# Altium schematic symbol library eUSR_SchLibrary - PowerSupply.SchLib: 32 symbols
Pins are listed as number, name and electrical type; pins without a type are passive.

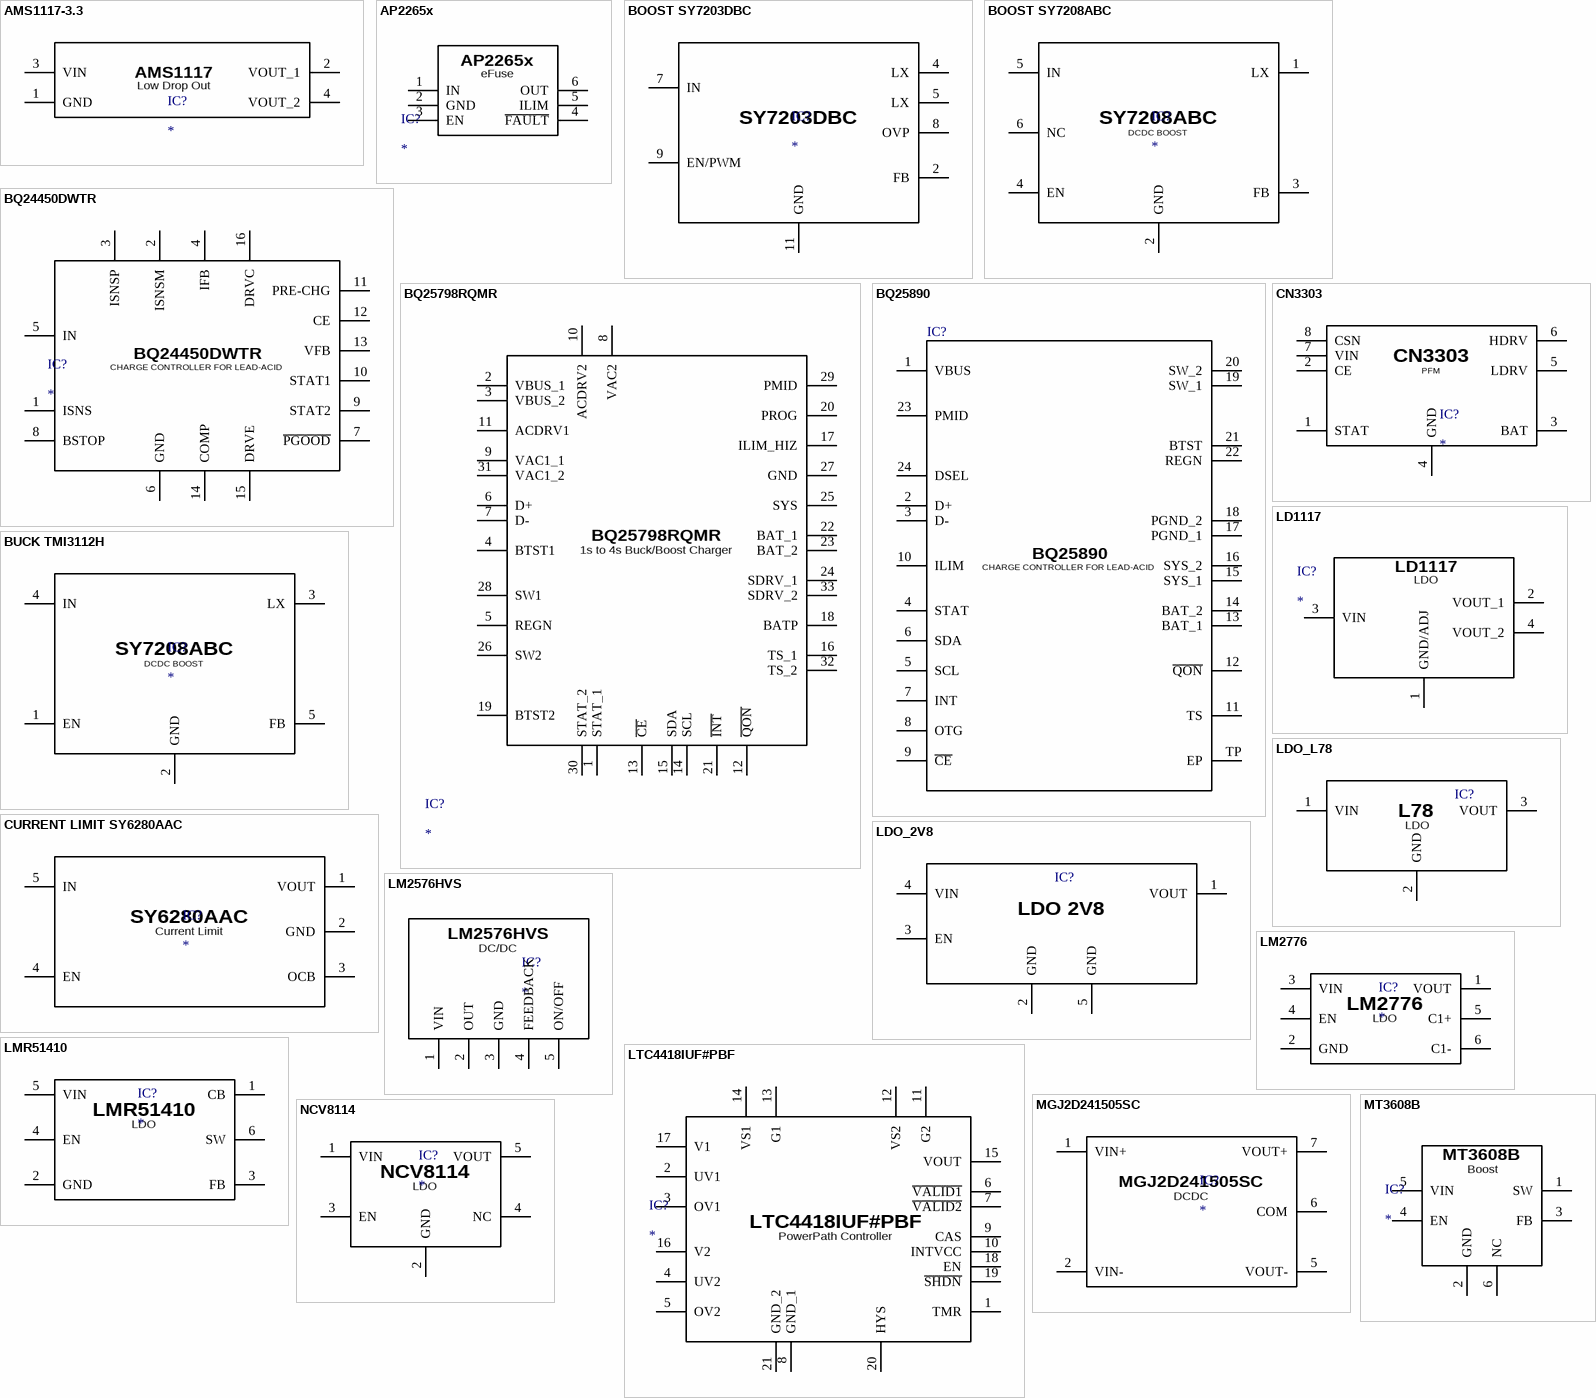
[diagram p0: symbols AMS1117-3.3 to NCV8114]

## AMS1117-3.3
designator IC?
ComponentLink1Description: Datasheet; ComponentLink1URL: *; ComponentLink2Description: Distributor Link; ComponentLink2URL: *
pins: 1 GND, 2 VOUT_1, 3 VIN, 4 VOUT_2
text: AMS1117; Low Drop Out

## AP2265x
designator IC?
ComponentLink1Description: Datasheet; ComponentLink1URL: *; ComponentLink2Description: Distributor Link; ComponentLink2URL: *
pins: 1 IN, 2 GND, 3 EN, 4 ~{FAULT}, 5 ILIM, 6 OUT
text: eFuse

## BOOST SY7203DBC
designator IC?
ComponentLink1Description: Datasheet; ComponentLink1URL: *; ComponentLink2Description: Distributor Link; ComponentLink2URL: *
pins: 2 FB (power), 4 LX (power), 5 LX (power), 7 IN (power), 8 OVP (power), 9 EN/PWM (power), 11 GND (power)
text: SY7203DBC

## BOOST SY7208ABC
designator IC?
ComponentLink1Description: Datasheet; ComponentLink1URL: *; ComponentLink2Description: Distributor Link; ComponentLink2URL: *
pins: 1 LX (power), 2 GND (power), 3 FB (power), 4 EN (power), 5 IN (power), 6 NC (power)
text: SY7208ABC; DCDC BOOST

## BQ24450DWTR
designator IC?
ComponentLink1Description: Datasheet; ComponentLink1URL: *; ComponentLink2Description: Distributor Link; ComponentLink2URL: *
pins: 1 ISNS, 2 ISNSM, 3 ISNSP, 4 IFB, 5 IN, 6 GND, 7 ~{PGOOD}, 8 BSTOP, 9 STAT2, 10 STAT1, 11 PRE-CHG, 12 CE, 13 VFB, 14 COMP, 15 DRVE, 16 DRVC
text: CHARGE CONTROLLER FOR LEAD-ACID

## BQ25798RQMR
designator IC?
ComponentLink1Description: Datasheet; ComponentLink1URL: *; ComponentLink2Description: Distributor Link; ComponentLink2URL: *
pins: 1 STAT_1, 2 VBUS_1, 3 VBUS_2, 4 BTST1, 5 REGN, 6 D+, 7 D-, 8 VAC2, 9 VAC1_1, 10 ACDRV2, 11 ACDRV1, 12 ~{QON}, 13 ~{CE}, 14 SCL, 15 SDA, 16 TS_1, 17 ILIM_HIZ, 18 BATP, 19 BTST2, 20 PROG, 21 ~{INT}, 22 BAT_1, 23 BAT_2, 24 SDRV_1, 25 SYS, 26 SW2, 27 GND, 28 SW1, 29 PMID, 30 STAT_2, 31 VAC1_2, 32 TS_2, 33 SDRV_2
text: 1s to 4s Buck/Boost Charger

## BQ25890
designator IC?
ComponentLink1Description: Datasheet; ComponentLink1URL: *; ComponentLink2Description: Distributor Link; ComponentLink2URL: *
pins: 1 VBUS, 2 D+, 3 D-, 4 STAT, 5 SCL, 6 SDA, 7 INT, 8 OTG, 9 ~{CE}, 10 ILIM, 11 TS, 12 ~{QON}, 13 BAT_1, 14 BAT_2, 15 SYS_1, 16 SYS_2, 17 PGND_1, 18 PGND_2, 19 SW_1, 20 SW_2, 21 BTST, 22 REGN, 23 PMID, 24 DSEL, TP EP
text: CHARGE CONTROLLER FOR LEAD-ACID

## BUCK TMI3112H
designator IC?
ComponentLink1Description: Datasheet; ComponentLink1URL: *; ComponentLink2Description: Distributor Link; ComponentLink2URL: *
pins: 1 EN (power), 2 GND (power), 3 LX (power), 4 IN (power), 5 FB (power)
text: SY7208ABC; DCDC BOOST

## CN3303
designator IC?
ComponentLink1Description: Datasheet; ComponentLink1URL: *; ComponentLink2Description: Distributor Link; ComponentLink2URL: *
pins: 1 STAT (power), 2 CE (power), 3 BAT (power), 4 GND (power), 5 LDRV (power), 6 HDRV (power), 7 VIN (power), 8 CSN (power)
text: PFM

## CURRENT LIMIT SY6280AAC
designator IC?
ComponentLink1Description: Datasheet; ComponentLink1URL: *; ComponentLink2Description: Distributor Link; ComponentLink2URL: *
pins: 1 VOUT (power), 2 GND (power), 3 OCB (power), 4 EN (power), 5 IN (power)
text: SY6280AAC; Current Limit

## LD1117
designator IC?
ComponentLink1Description: Datasheet; ComponentLink1URL: *; ComponentLink2Description: Distributor Link; ComponentLink2URL: *
pins: 1 GND/ADJ, 2 VOUT_1, 3 VIN, 4 VOUT_2
text: LDO

## LDO_2V8
designator IC?  (value not drawn)
ComponentLink1Description: Datasheet; ComponentLink1URL: *; ComponentLink2Description: Distributor Link; ComponentLink2URL: *
pins: 1 VOUT (power), 2 GND (power), 3 EN, 4 VIN (power), 5 GND (power)
text: LDO 2V8

## LDO_L78
designator IC?  (value not drawn)
ComponentLink1Description: Datasheet; ComponentLink1URL: *; ComponentLink2Description: Distributor Link; ComponentLink2URL: *
pins: 1 VIN (power), 2 GND (power), 3 VOUT (power)
text: L78; LDO

## LM2576HVS
designator IC?
ComponentLink1Description: Datasheet; ComponentLink1URL: *; ComponentLink2Description: Distributor Link; ComponentLink2URL: *
pins: 1 VIN, 2 OUT, 3 GND, 4 FEEDBACK, 5 ON/OFF
text: DC/DC

## LM2776
designator IC?
ComponentLink1Description: Datasheet; ComponentLink1URL: *; ComponentLink2Description: Distributor Link; ComponentLink2URL: *
pins: 1 VOUT, 2 GND, 3 VIN, 4 EN, 5 C1+, 6 C1-
text: LDO

## LMR51410
designator IC?
ComponentLink1Description: Datasheet; ComponentLink1URL: *; ComponentLink2Description: Distributor Link; ComponentLink2URL: *
pins: 1 CB, 2 GND, 3 FB, 4 EN, 5 VIN, 6 SW
text: LDO

## LTC4418IUF#PBF
designator IC?
ComponentLink1Description: Datasheet; ComponentLink1URL: *; ComponentLink2Description: Distributor Link; ComponentLink2URL: *
pins: 1 TMR, 2 UV1, 3 OV1, 4 UV2, 5 OV2, 6 ~{VALID1}, 7 ~{VALID2}, 8 GND_1, 9 CAS, 10 INTVCC, 11 G2, 12 VS2, 13 G1, 14 VS1, 15 VOUT, 16 V2, 17 V1, 18 EN, 19 ~{SHDN}, 20 HYS, 21 GND_2
text: PowerPath Controller

## MGJ2D241505SC
designator IC?
ComponentLink1Description: Datasheet; ComponentLink1URL: *; ComponentLink2Description: Distributor Link; ComponentLink2URL: *
pins: 1 VIN+, 2 VIN-, 5 VOUT-, 6 COM, 7 VOUT+
text: DCDC

## MT3608B
designator IC?
ComponentLink1Description: Datasheet; ComponentLink1URL: *; ComponentLink2Description: Distributor Link; ComponentLink2URL: *
pins: 1 SW, 2 GND, 3 FB, 4 EN, 5 VIN, 6 NC
text: Boost

## NCV8114
designator IC?
ComponentLink1Description: Datasheet; ComponentLink1URL: *; ComponentLink2Description: Distributor Link; ComponentLink2URL: *
pins: 1 VIN, 2 GND, 3 EN, 4 NC, 5 VOUT
text: LDO

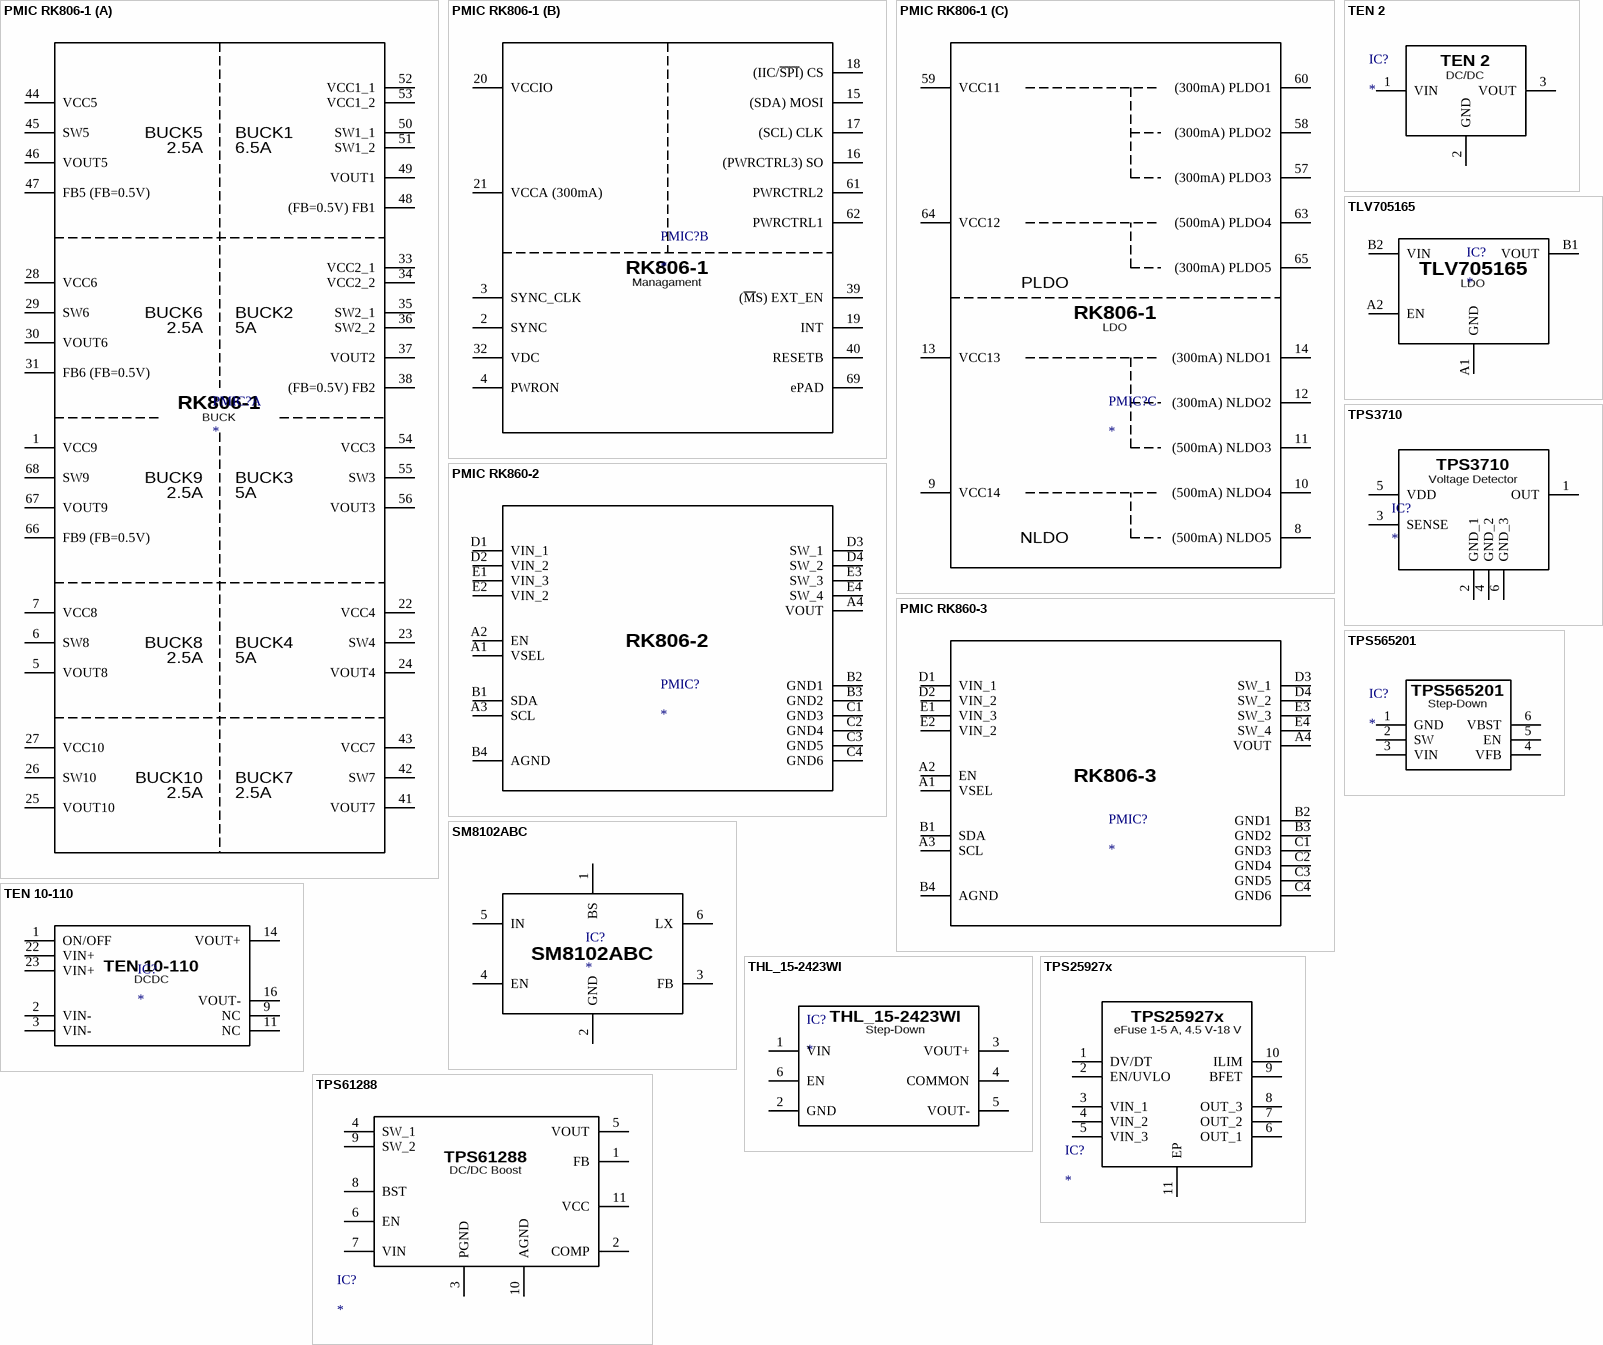
[diagram p1: symbols PMIC RK806-1 to TPS565201]

## PMIC RK806-1
designator PMIC?
ComponentLink1Description: Datasheet; ComponentLink1URL: *; ComponentLink2Description: Distributor Link; ComponentLink2URL: *
part A pins: 1 VCC9, 5 VOUT8, 6 SW8, 7 VCC8, 22 VCC4, 23 SW4, 24 VOUT4, 25 VOUT10, 26 SW10, 27 VCC10, 28 VCC6, 29 SW6, 30 VOUT6, 31 FB6 (FB=0.5V), 33 VCC2_1, 34 VCC2_2, 35 SW2_1, 36 SW2_2, 37 VOUT2, 38 (FB=0.5V) FB2, 41 VOUT7, 42 SW7, 43 VCC7, 44 VCC5, 45 SW5, 46 VOUT5, 47 FB5 (FB=0.5V), 48 (FB=0.5V) FB1, 49 VOUT1, 50 SW1_1, 51 SW1_2, 52 VCC1_1, 53 VCC1_2, 54 VCC3, 55 SW3, 56 VOUT3, 66 FB9 (FB=0.5V), 67 VOUT9, 68 SW9
part B pins: 2 SYNC, 3 SYNC_CLK, 4 PWRON, 15 (SDA) MOSI, 16 (PWRCTRL3) SO, 17 (SCL) CLK, 18 (IIC/~{SPI}) CS, 19 INT, 20 VCCIO, 21 VCCA (300mA), 32 VDC, 39 (~{M}S) EXT_EN, 40 RESETB, 61 PWRCTRL2, 62 PWRCTRL1, 69 ePAD
part C pins: 8 (500mA) NLDO5, 9 VCC14, 10 (500mA) NLDO4, 11 (500mA) NLDO3, 12 (300mA) NLDO2, 13 VCC13, 14 (300mA) NLDO1, 57 (300mA) PLDO3, 58 (300mA) PLDO2, 59 VCC11, 60 (300mA) PLDO1, 63 (500mA) PLDO4, 64 VCC12, 65 (300mA) PLDO5
part A text: BUCK5; BUCK1; 2.5A; 6.5A; BUCK6; BUCK2; 5A; RK806-1; BUCK; BUCK9; BUCK3; BUCK8; BUCK4; BUCK10; BUCK7
part B text: RK806-1; Managament
part C text: PLDO; RK806-1; LDO; NLDO

## PMIC RK860-2
designator PMIC?
ComponentLink1Description: Datasheet; ComponentLink1URL: *; ComponentLink2Description: Distributor Link; ComponentLink2URL: *
pins: A1 VSEL, A2 EN, A3 SCL, A4 VOUT, B1 SDA, B2 GND1, B3 GND2, B4 AGND, C1 GND3, C2 GND4, C3 GND5, C4 GND6, D1 VIN_1, D2 VIN_2, D3 SW_1, D4 SW_2, E1 VIN_3, E2 VIN_2, E3 SW_3, E4 SW_4
text: RK806-2

## PMIC RK860-3
designator PMIC?
ComponentLink1Description: Datasheet; ComponentLink1URL: *; ComponentLink2Description: Distributor Link; ComponentLink2URL: *
pins: A1 VSEL, A2 EN, A3 SCL, A4 VOUT, B1 SDA, B2 GND1, B3 GND2, B4 AGND, C1 GND3, C2 GND4, C3 GND5, C4 GND6, D1 VIN_1, D2 VIN_2, D3 SW_1, D4 SW_2, E1 VIN_3, E2 VIN_2, E3 SW_3, E4 SW_4
text: RK806-3

## SM8102ABC
designator IC?
ComponentLink1Description: Datasheet; ComponentLink1URL: *; ComponentLink2Description: Distributor Link; ComponentLink2URL: *
pins: 1 BS (power), 2 GND (power), 3 FB (power), 4 EN (power), 5 IN (power), 6 LX (power)

## TEN 2
designator IC?
ComponentLink1Description: Datasheet; ComponentLink1URL: *; ComponentLink2Description: Distributor Link; ComponentLink2URL: *
pins: 1 VIN, 2 GND, 3 VOUT
text: DC/DC

## TEN 10-110
designator IC?
ComponentLink1Description: Datasheet; ComponentLink1URL: *; ComponentLink2Description: Distributor Link; ComponentLink2URL: *
pins: 1 ON/OFF, 2 VIN-, 3 VIN-, 9 NC, 11 NC, 14 VOUT+, 16 VOUT-, 22 VIN+, 23 VIN+
text: DCDC

## THL_15-2423WI
designator IC?
ComponentLink1Description: Datasheet; ComponentLink1URL: *; ComponentLink2Description: Distributor Link; ComponentLink2URL: *
pins: 1 VIN, 2 GND, 3 VOUT+, 4 COMMON, 5 VOUT-, 6 EN
text: Step-Down

## TLV705165
designator IC?
ComponentLink1Description: Datasheet; ComponentLink1URL: *; ComponentLink2Description: Distributor Link; ComponentLink2URL: *
pins: A1 GND, A2 EN, B1 VOUT, B2 VIN
text: LDO

## TPS3710
designator IC?
ComponentLink1Description: Datasheet; ComponentLink1URL: *; ComponentLink2Description: Distributor Link; ComponentLink2URL: *
pins: 1 OUT, 2 GND_1, 3 SENSE, 4 GND_2, 5 VDD, 6 GND_3
text: Voltage Detector

## TPS25927x
designator IC?
ComponentLink1Description: Datasheet; ComponentLink1URL: *; ComponentLink2Description: Distributor Link; ComponentLink2URL: *
pins: 1 DV/DT, 2 EN/UVLO, 3 VIN_1, 4 VIN_2, 5 VIN_3, 6 OUT_1, 7 OUT_2, 8 OUT_3, 9 BFET, 10 ILIM, 11 EP
text: eFuse 1-5 A, 4.5 V-18 V

## TPS61288
designator IC?
ComponentLink1Description: Datasheet; ComponentLink1URL: *; ComponentLink2Description: Distributor Link; ComponentLink2URL: *
pins: 1 FB, 2 COMP, 3 PGND, 4 SW_1, 5 VOUT, 6 EN, 7 VIN, 8 BST, 9 SW_2, 10 AGND, 11 VCC
text: DC/DC Boost

## TPS565201
designator IC?
ComponentLink1Description: Datasheet; ComponentLink1URL: *; ComponentLink2Description: Distributor Link; ComponentLink2URL: *
pins: 1 GND, 2 SW, 3 VIN, 4 VFB, 5 EN, 6 VBST
text: Step-Down